# Altium schematic symbol library Schlib.SchLib: 19 symbols
Pins are listed as number, name and electrical type; pins without a type are passive.

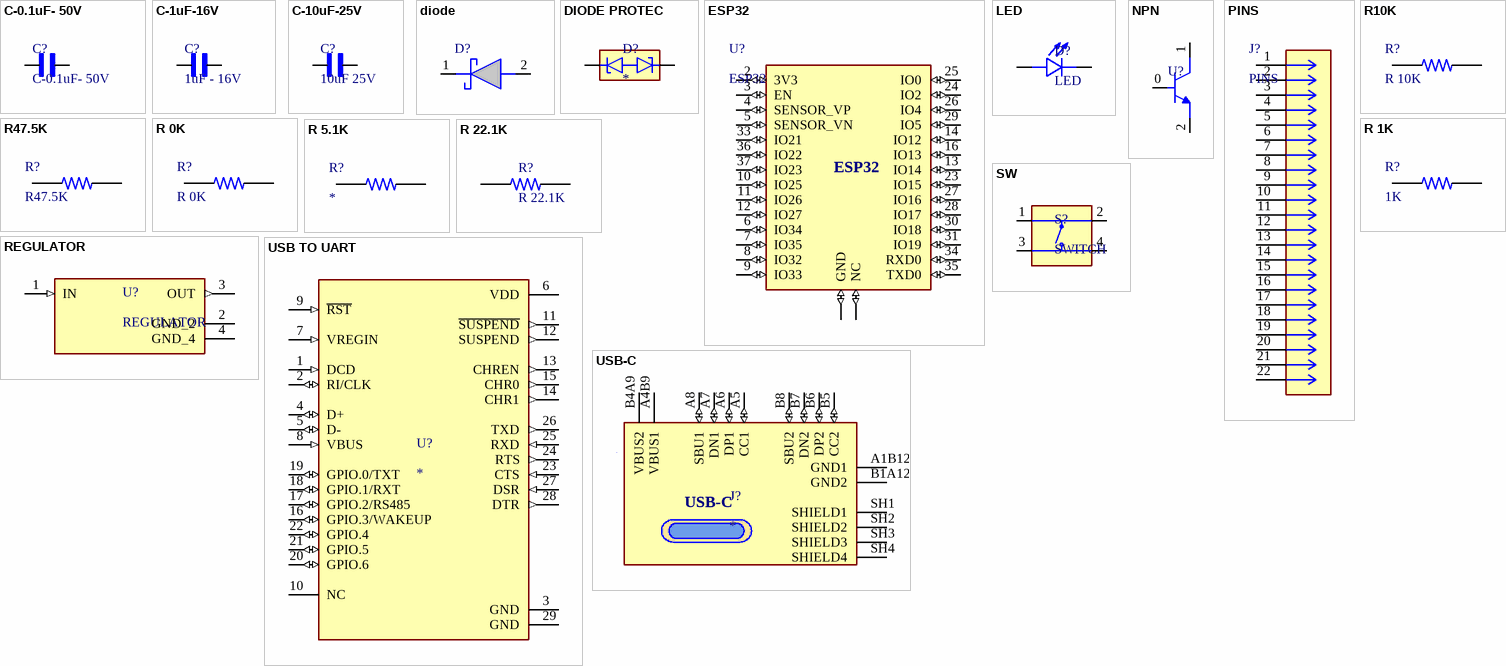
[diagram p0: symbols C-0.1uF- 50V to USB-C]

## C-0.1uF- 50V
designator C?
0.1 ÂµF Â±10% 50V Ceramic Capacitor X7R 0402 (1005 Metric); MF: Samsung Electro-Mechanics; MP: CL05B104KB5NNNC; SnapEDA_Link: https://www.snapeda.com/parts/CL05B104KB5NNNC/Samsung/view-part/?ref=snap; Package: SMD-2 Samsung; Value: *; Check_prices: https://www.snapeda.com/parts/CL05B104KB5NNNC/Samsung/view-part/?ref=eda
footprint CAPC1005X55N
pins: 1, 2

## C-1uF-16V
designator C?, comment 1uF - 16V
1 ÂµF Â±10% 16V Ceramic Capacitor X7R 0603 (1608 Metric); MF: Samsung Electro-Mechanics; MP: CL10B105KO8NNNC; SnapEDA_Link: https://www.snapeda.com/parts/CL10B105KO8NNNC/Samsung/view-part/?ref=snap; Package: SMD-2 Samsung; Value: *; Check_prices: https://www.snapeda.com/parts/CL10B105KO8NNNC/Samsung/view-part/?ref=eda
footprint CAPC1608X90N
pins: 1, 2

## C-10uF-25V
designator C?, comment 10uF 25V
CL31 Series 10 uF 25 V Â±10 % Tolerance X7R SMT Multilayer Ceramic Capacitor; MF: Samsung Electro-Mechanics; MP: CL31B106KAHNNNE; SnapEDA_Link: https://www.snapeda.com/parts/CL31B106KAHNNNE/Samsung/view-part/?ref=snap; Package: SMD-2 Samsung; Value: *; Check_prices: https://www.snapeda.com/parts/CL31B106KAHNNNE/Samsung/view-part/?ref=eda
footprint CAPC3216X180N
pins: 1, 2

## diode
designator D?, comment 1N5819HW1-7-F  (value not drawn)
1N5819 Schottky Diode 40V 1A SOD123F; Manufacturer_Name: Diodes Incorporated; Geometry.Height: 1.15mm; Mouser Part Number: 621-1N5819HW1-7-F; Mouser Price/Stock: https://www.mouser.co.uk/ProductDetail/Diodes-Incorporated/1N5819HW1-7-F?qs=60RJRzIpcl9ACQG7Zn63jQ%3D%3D; Manufacturer_Part_Number: 1N5819HW1-7-F; Datasheet Link: https://www.diodes.com//assets/Datasheets/1N5819HW1.pdf
footprint SODFL3518X115N
pins: 1 K, 2 A

## DIODE PROTEC
designator D?
44V, 70V Clamp 3A (8/20Âµs) Ipp Tvs Diode Surface Mount SOD-323; MF: Nexperia USA; MP: PESD1LIN; SnapEDA_Link: https://www.snapeda.com/parts/PESD1LIN/Nexperia/view-part/?ref=snap; Package: SOD-323 Vishay Semiconductor Diodes Division; Value: *; Check_prices: https://www.snapeda.com/parts/PESD1LIN/Nexperia/view-part/?ref=eda
footprint DIO_PESD1LIN
pins: 1, 2

## ESP32
designator U?
footprint ESP32WROOM32EN8
pins: 1 GND (io), 2 3V3 (io), 3 EN (io), 4 SENSOR_VP (io), 5 SENSOR_VN (io), 6 IO34 (io), 7 IO35 (io), 8 IO32 (io), 9 IO33 (io), 10 IO25 (io), 11 IO26 (io), 12 IO27 (io), 13 IO14 (io), 14 IO12 (io), 15 GND (io), 16 IO13 (io), 17 NC (io), 18 NC (io), 19 NC (io), 20 NC (io), 21 NC (io), 22 NC (io), 23 IO15 (io), 24 IO2 (io), 25 IO0 (io), 26 IO4 (io), 27 IO16 (io), 28 IO17 (io), 29 IO5 (io), 30 IO18 (io), 31 IO19 (io), 32 NC (io), 33 IO21 (io), 34 RXD0 (io), 35 TXD0 (io), 36 IO22 (io), 37 IO23 (io), 38 GND (io), 39 GND (io), 40 GND (io), 41 GND (io), 42 GND (io), 43 GND (io), 44 GND (io), 45 GND (io), 46 GND (io), 47 GND (io)

## LED
designator D?
Green 568nm LED Indication - Discrete 2.2V 0603 (1608 Metric); MF: Kingbright; MP: APT1608SGC; SnapEDA_Link: https://www.snapeda.com/parts/APT1608SGC/Kingbright/view-part/?ref=snap; Package: 0603 Kingbright; Value: *; Check_prices: https://www.snapeda.com/parts/APT1608SGC/Kingbright/view-part/?ref=eda
footprint LED_APT1608SGC
pins: 1 C, 2 A

## NPN
designator U?
footprint SOT91P240X110-3N
pins: 0, 1, 2

## PINS
designator J?
MP: 22284221; Package: None; Price: None; Value: *; Availability: Unavailable
footprint CONN_SD-42375-001_M320_22_MOL
pins: 1, 2, 3, 4, 5, 6, 7, 8, 9, 10, 11, 12, 13, 14, 15, 16, 17, 18, 19, 20, 21, 22

## R10K
designator R?, comment R 10K
10 kOhms Â±1% 0.063W, 1/16W Chip Resistor 0402 (1005 Metric) Moisture Resistant Thick Film; MF: Yageo; MP: RC0402FR-0710KP; SnapEDA_Link: https://www.snapeda.com/parts/RC0402FR-0710KP/Yageo/view-part/?ref=snap; Package: 1005 Panasonic Electronic Components; Value: *; Check_prices: https://www.snapeda.com/parts/RC0402FR-0710KP/Yageo/view-part/?ref=eda
footprint RESC1005X40N
pins: 1, 2

## R47.5K
designator R?
MP: ERA3AEB4752V; Value: *; Package: None; Availability: Unavailable; Price: None
footprint RES_ERA3AEB4752V
pins: 1, 2

## R 0K
designator R?
0 Ohms Jumper 0.063W, 1/16W Chip Resistor 0402 (1005 Metric) Moisture Resistant Thick Film; MF: Yageo; MP: RC0402JR-070RL; Purchase-URL: https://pricing.snapeda.com/search/part/RC0402JR-070RL/?ref=eda; Package: 0402 Yageo; Digi-Key_Part_Number: 311-0.0JRTR-ND; Check_prices: https://www.snapeda.com/parts/RC0402JR-070RL/Yageo/view-part/?ref=eda; Value: *; SnapEDA_Link: https://www.snapeda.com/parts/RC0402JR-070RL/Yageo/view-part/?ref=snap
footprint RESC1005X40
pins: 1, 2

## R 1K
designator R?, comment 1K
1 kOhms Â±1% 0.063W, 1/16W Chip Resistor 0402 (1005 Metric) Moisture Resistant Thick Film; MF: Yageo Corporation; MP: RC0402FR071KL; SnapEDA_Link: https://www.snapeda.com/parts/RC0402FR071KL/Yageo/view-part/?ref=snap; Package: 0402-2 YAGEO; Value: *; Check_prices: https://www.snapeda.com/parts/RC0402FR071KL/Yageo/view-part/?ref=eda
footprint RESC1005X40N-1K
pins: 1, 2

## R 5.1K
designator R?
5.1 kOhms Â±1% 0.063W, 1/16W Chip Resistor 0402 (1005 Metric) Moisture Resistant Thick Film; MF: Yageo; MP: RC0402FR-075K1L; SnapEDA_Link: https://www.snapeda.com/parts/RC0402FR-075K1L/Yageo/view-part/?ref=snap; Package: 1005 Panasonic Electronic Components; Value: *; Check_prices: https://www.snapeda.com/parts/RC0402FR-075K1L/Yageo/view-part/?ref=eda
footprint RESC1005X40N
pins: 1, 2

## R 22.1K
designator R?
22.1 kOhms Â±1% 0.1W, 1/10W Chip Resistor 0402 (1005 Metric) Automotive AEC-Q200, Moisture Resistant Thick Film; MF: KOA Speer; MP: RK73H1ETTP2212F; SnapEDA_Link: https://www.snapeda.com/parts/RK73H1ETTP2212F/KOA+Speer/view-part/?ref=snap; Package: 0402 KOA; Value: *; Check_prices: https://www.snapeda.com/parts/RK73H1ETTP2212F/KOA+Speer/view-part/?ref=eda
footprint RESC1005X40N-22.1
pins: 1, 2

## REGULATOR
designator U?
1.5-A, 20-V, low-dropout voltage regulator with reverse current & reverse voltage protection; MF: Texas Instruments; MP: TL1963A-33DCYR; SnapEDA_Link: https://www.snapeda.com/parts/TL1963A-33DCYR/Texas+Instruments/view-part/?ref=snap; Package: SOT-223-4 Texas Instruments; Value: *; Check_prices: https://www.snapeda.com/parts/TL1963A-33DCYR/Texas+Instruments/view-part/?ref=eda
footprint VREG_TL1963A-33DCYR
pins: 1 IN (in), 2 GND_2 (power), 3 OUT (out), 4 GND_4 (power)

## SW
designator S?, comment SWITCH
Switch;Tactile;SPST-NO;OFF-MOM;Top Actuator;260 Grams;4.3mm;.05A;12VDC;Gull Wing | C&K PTS645SK50SMTR92 LFS; SnapEDA_Link: https://www.snapeda.com/parts/PTS645SK50SMTR92%20LFS/C%2526K/view-part/?ref=snap; Package: None; Value: *; MF: C&K; MP: PTS645SK50SMTR92 LFS; Check_prices: https://www.snapeda.com/parts/PTS645SK50SMTR92%20LFS/C%2526K/view-part/?ref=eda
footprint SW_PTS645SK50SMTR92LFS
pins: 1, 2, 3, 4

## USB TO UART
designator U?
USB Bridge, USB to UART USB 2.0 UART Interface 28-QFN (5x5); MF: Silicon Labs; MP: CP2102N-A02-GQFN28; Value: *; Price: None; Package: WFQFN-28 Silicon Labs; Check_prices: https://www.snapeda.com/parts/CP2102N-A02-GQFN28/Silicon+Labs/view-part/?ref=eda; Availability: In Stock; SnapEDA_Link: https://www.snapeda.com/parts/CP2102N-A02-GQFN28/Silicon+Labs/view-part/?ref=snap; Purchase-URL: https://pricing.snapeda.com/search/part/CP2102N-A02-GQFN28/?ref=eda
footprint QFN50P500X500X80-29N
pins: 1 DCD (in), 2 RI/CLK (io), 3 GND (power), 4 D+ (io), 5 D- (io), 6 VDD (power), 7 VREGIN (in), 8 VBUS (in), 9 ~{RST} (in), 10 NC, 11 ~{SUSPEND} (out), 12 SUSPEND (out), 13 CHREN (out), 14 CHR1 (out), 15 CHR0 (out), 16 GPIO.3/WAKEUP (io), 17 GPIO.2/RS485 (io), 18 GPIO.1/RXT (io), 19 GPIO.0/TXT (io), 20 GPIO.6 (io), 21 GPIO.5 (io), 22 GPIO.4 (io), 23 CTS (in), 24 RTS (out), 25 RXD (in), 26 TXD (out), 27 DSR (in), 28 DTR (out), 29 GND (power)

## USB-C
designator J?
USB Type C - Connector, Top-mount SMT, 16pos | Molex Incorporated 217179-0001; SnapEDA_Link: https://www.snapeda.com/parts/217179-0001/Molex/view-part/?ref=snap; Package: None; Value: *; MF: Molex; MP: 217179-0001; Check_prices: https://www.snapeda.com/parts/217179-0001/Molex/view-part/?ref=eda
footprint MOLEX_2171790001
pins: A1B12 GND1 (power), A4B9 VBUS1 (power), A5 CC1 (io), A6 DP1 (io), A7 DN1 (io), A8 SBU1 (io), B1A12 GND2 (power), B4A9 VBUS2 (power), B5 CC2 (io), B6 DP2 (io), B7 DN2 (io), B8 SBU2 (io), SH1 SHIELD1, SH2 SHIELD2, SH3 SHIELD3, SH4 SHIELD4